# Altium footprint library mylib.PcbLib: 214 footprints (part 4 of 14)
Each footprint in its own frame and in the unit in brackets; x right, y up, seen from the top. Pads: shape width x height; smd on the part's side, far side on the other; paste and mask are expansions set on the pad; w line width, h text height; cw(c..) or ccw(c..) is an arc to the next point about the centre after c.
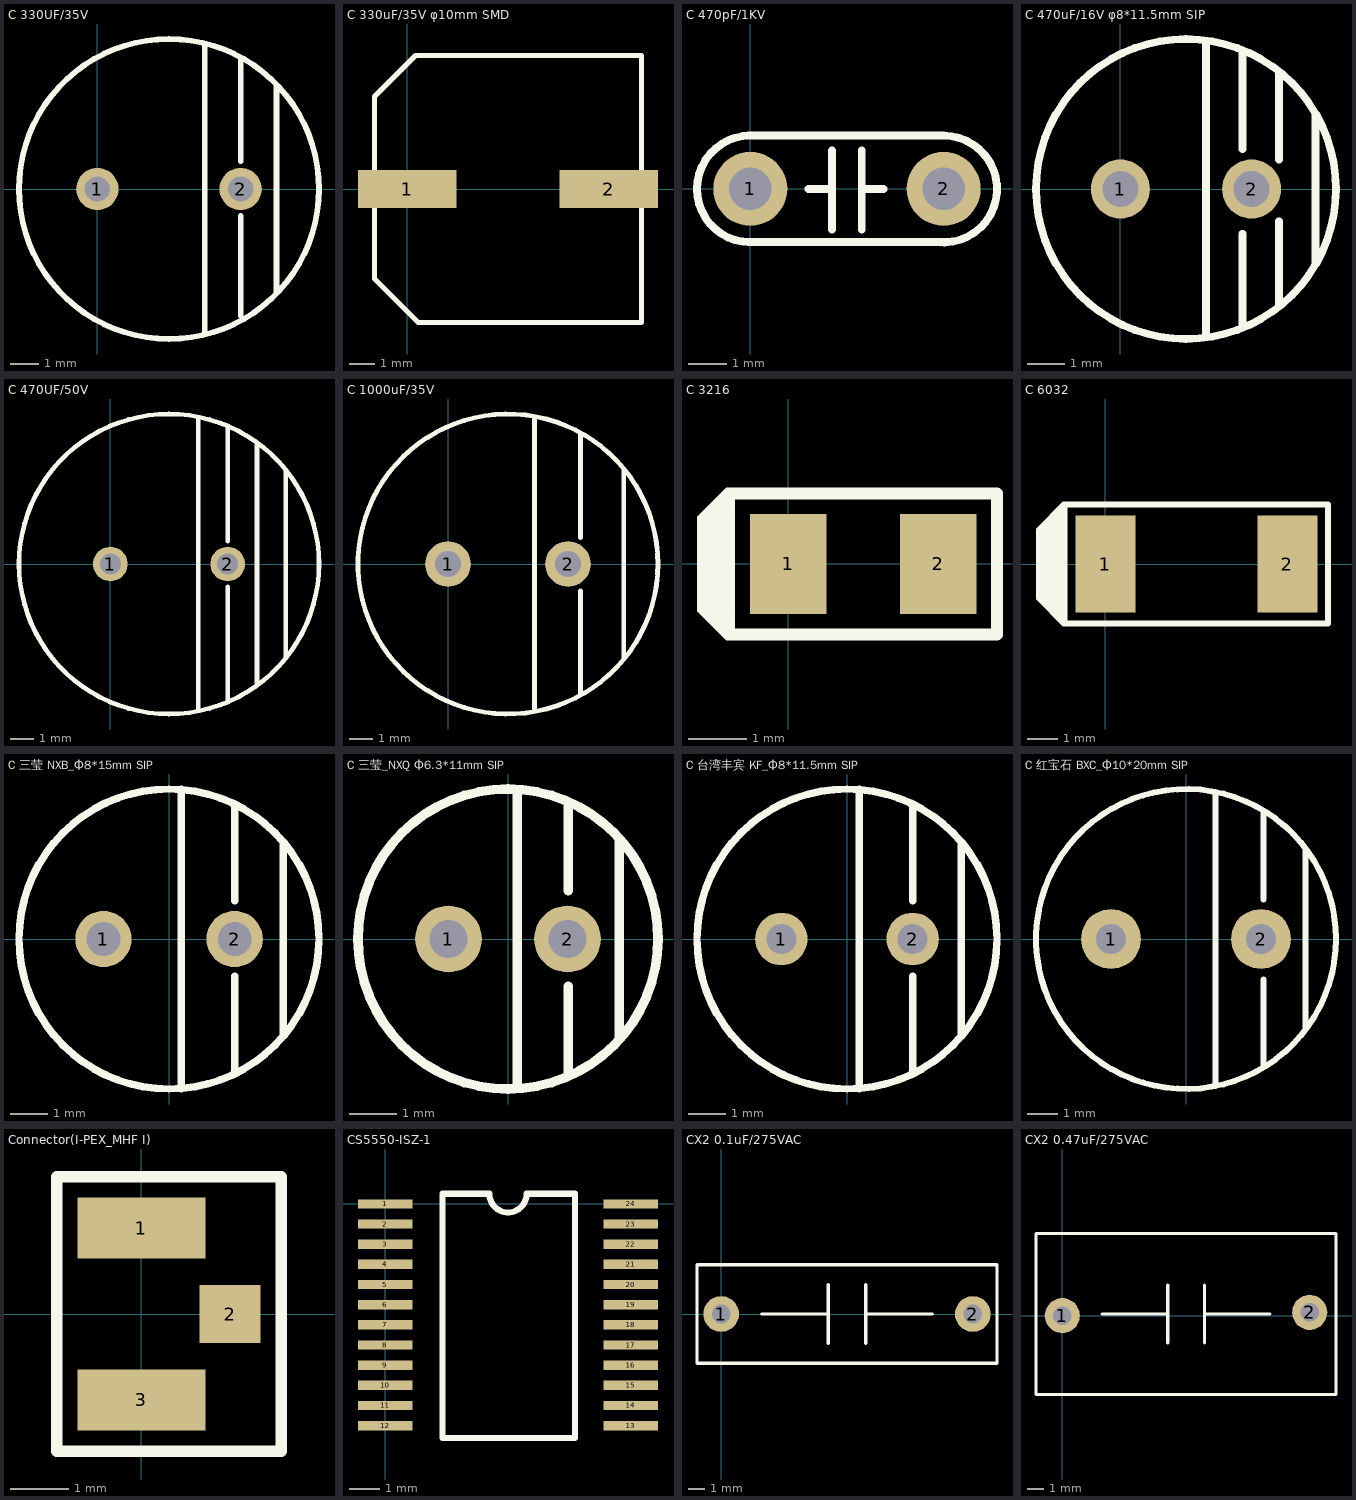
[diagram p3: the footprints below, top view; thin cyan lines are the x and y axes]

## C 330UF/35V [mm]
pads (2):
  round 1.5 hole 0.9: 1(0,0) 2(5.08,0)
Top Overlay:
  lines w0.203: 3.81,-5.08 3.81,-4.643 3.81,4.921 3.81,5.1 ; 5.08,-4.5 5.08,-4.086 5.08,-0.96 ; 5.08,0.98 5.08,4.286 5.08,4.6 ; 6.35,-3.66 6.35,-3.294 6.35,3.334 6.35,3.7 ; -2.78,0 cw(c2.54,0) 2.54,5.32 cw(c2.54,0) 7.86,0 cw(c2.54,0) 2.54,-5.32 cw(c2.54,0) -2.78,0

## C 330uF/35V φ10mm SMD [mm]
pads (2):
  rect 3.9x1.5 smd: 1(0,0) 2(8,0)
Top Overlay:
  lines w0.203: -1.3,-3.565 -1.3,3.666 0.334,5.3 9.3,5.3 9.3,-5.3 0.435,-5.3 -1.3,-3.565

## C 470pF/1KV [mil]
pads (2):
  round 75 hole 43: 1(0,0) 2(196,0)
Top Overlay:
  lines w8: -2,-54 199,-54 ; -2,54 195,54 ; 0,-54.01 cw(c0,0) 0,54.01 ; 59,0 82,0 ; 83,-41 83,39 ; 113,-41 113,39 ; 114,0 135,0 ; 196,54 cw(c196,-0.08) 197,-54.16

## C 470uF/16V φ8*11.5mm SIP [mil]
pads (2):
  round 62 hole 38: 1(0,0) 2(137.8,0)
Top Overlay:
  circle w8: c68.9,0 r157.48
  lines w8: 89.9,-155 89.9,155 ; 128.23,-144 128.23,-47 ; 128.23,42 128.23,145 ; 166.56,-123 166.56,-34 ; 166.56,31 166.56,123 ; 204.9,-79 204.9,79

## C 470UF/50V [mm]
pads (2):
  round 1.5 hole 0.9: 1(0,0) 2(5.08,0)
Top Overlay:
  lines w0.203: 3.81,-6.29 3.81,-4.763 3.81,4.921 3.81,6.29 ; 5.08,-5.88 5.08,-4.286 5.08,-0.98 ; 5.08,0.98 5.08,4.286 5.08,5.88 ; 6.35,-5.15 6.35,-3.334 6.35,3.334 6.35,5.15 ; 7.6,-4 7.6,4 ; -3.96,0 cw(c2.54,0) 2.54,6.5 cw(c2.54,0) 9.04,0 cw(c2.54,0) 2.54,-6.5 cw(c2.54,0) -3.96,0

## C 1000uF/35V [mil]
pads (2):
  round 76 hole 44: 1(0,0) 2(200,0)
Top Overlay:
  circle w8: c100,0 r250
  lines w8: 144,-245 144,245 ; 221,-217 221,-45 ; 221,44 221,217 ; 293,-157 293,156
3D body: height 819.68, standoff 0, extent -150.37,-250.37 350.37,250.37

## C 3216 [mil]
pads (2):
  rect 52x68 smd: 1(0,0) 2(102,0)
Top Overlay:
  region: -40,52 -40,-52 -42,-52 -62,-32 -62,32 -42,52
  lines w8: -40,-48 -40,48 142,48 142,-48 -40,-48

## C 6032 [mil]
pads (2):
  rect 78x126 smd: 1(0,0) 2(236.22,0)
Top Overlay:
  region: -53,81 -53,-81 -55,-81 -90,-46 -90,46 -55,81
  lines w8: -53,-77 -53,77 289,77 289,-77 -53,-77

## C 三莹 NXB_Φ8*15mm SIP [mm]
pads (2):
  round 1.5 hole 0.9: 1(-1.75,0) 2(1.75,0)
Top Overlay:
  circle w0.2: c0,0 r4
  lines w0.2: 0.333,-3.988 0.333,3.988 ; 1.75,-3.581 1.75,-0.991 ; 1.75,1.016 1.75,3.581 ; 3.048,-2.591 3.048,2.591

## C 三莹_NXQ Φ6.3*11mm SIP [mm]
pads (2):
  round 1.4 hole 0.8: 1(-1.25,0) 2(1.25,0)
Top Overlay:
  circle w0.2: c0,0 r3.15
  lines w0.2: 0.198,-3.124 0.198,3.124 ; 1.267,-2.87 1.267,-0.991 ; 1.267,1.016 1.267,2.87 ; 2.337,-2.108 2.337,2.108

## C 台湾丰宾 KF_Φ8*11.5mm SIP [mm]
pads (2):
  round 1.4 hole 0.8: 1(-1.75,0) 2(1.75,0)
Top Overlay:
  circle w0.2: c0,0 r4
  lines w0.2: 0.333,-3.988 0.333,3.988 ; 1.75,-3.581 1.75,-0.991 ; 1.75,1.016 1.75,3.581 ; 3.048,-2.591 3.048,2.591

## C 红宝石 BXC_Φ10*20mm SIP [mm]
pads (2):
  round 2 hole 1: 1(-2.5,0) 2(2.5,0)
Top Overlay:
  circle w0.2: c0,0 r5
  lines w0.2: 0.98,-4.902 0.98,4.902 ; 2.58,-4.267 2.58,-1.346 ; 2.58,1.321 2.58,4.267 ; 3.977,-3.023 3.977,3.023

## Connector(I-PEX_MHF I) [mm]
pads (3):
  rect 2.2x1.05 smd: 1(0,1.475) 3(0,-1.475)
  rect 1.05x1 smd: 2(1.525,0)
Top Overlay:
  lines w0.2: -1.454,-2.354 2.404,-2.354 2.404,2.354 -1.454,2.354 -1.454,-2.354

## CS5550-ISZ-1 [mil]
pads (24):
  rect 70x12 smd: 1(0,0) 2(0,-26) 3(0,-52) 4(0,-78) 5(0,-104) 6(0,-130) 7(0,-156) 8(0,-182) 9(0,-208) 10(0,-234) 11(0,-260) 12(0,-286) 13(317,-286) 14(317,-260) 15(317,-234) 16(317,-208) 17(317,-182) 18(317,-156) 19(317,-130) 20(317,-104) 21(317,-78) 22(317,-52) 23(317,-26) 24(317,0)
Top Overlay:
  lines w8: 182.5,13 cw(c158.5,13) 134.5,13 74,13 74,-302 245,-302 245,13 183.5,13

## CX2 0.1uF/275VAC [mil]
pads (2):
  round 84 hole 44: 1(0,0) 2(590.55,0)
Top Overlay:
  lines w8: 95.5,0 251.5,0 ; 251.5,-69 251.5,69 ; 339.5,-69 339.5,69 ; 339.5,0 495.5,0 ; -56.72,-116 647.28,-116 647.28,116 -56.72,116 -56.72,-116

## CX2 0.47uF/275VAC [mil]
pads (2):
  round 84 hole 44: 1(0,0) 2(590.55,8)
Top Overlay:
  lines w8: 95.5,4 251.5,4 ; 251.5,-65 251.5,73 ; 339.5,-65 339.5,73 ; 339.5,4 495.5,4 ; -62.72,-188 -62.72,196 653.28,196 653.28,-188 -62.72,-188